# EAGLE library part BME280 (library GIX)
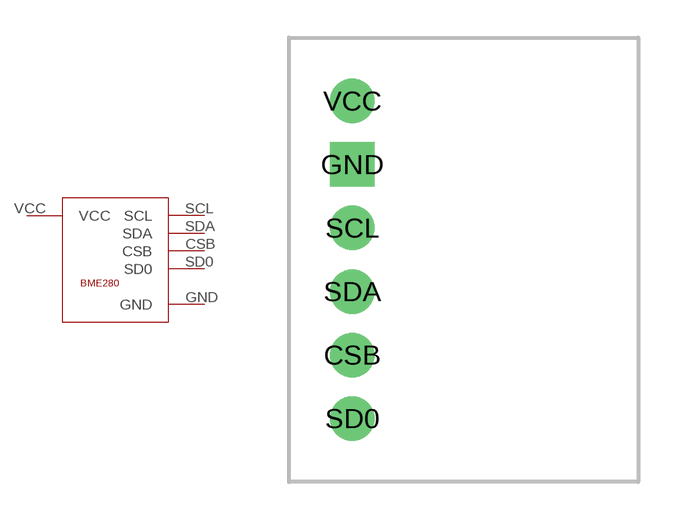
[diagram p5: symbol with the pads of BME280; footprint BME280]

Designator prefix -

## BME280  [BME280]
CSB  CSB
GND  GND
SCL  SCL
SD0  SD0
SDA  SDA
VCC  VCC

## Footprint BME280 (pad centres in mm)
drill 1.016 pad 1.778: CSB 0,-3.81; SCL 0,1.27; SD0 0,-6.35; SDA 0,-1.27; VCC 0,6.35
drill 1.016 pad 1.778 square: GND 0,3.81